# Altium footprint library CNT_TBLOCK_2.54MM_TE_282834-4.PcbLib: 1 footprints
Each footprint in its own frame and in the unit in brackets; x right, y up, seen from the top. Pads: shape width x height; smd on the part's side, far side on the other; paste and mask are expansions set on the pad; w line width, h text height; cw(c..) or ccw(c..) is an arc to the next point about the centre after c.
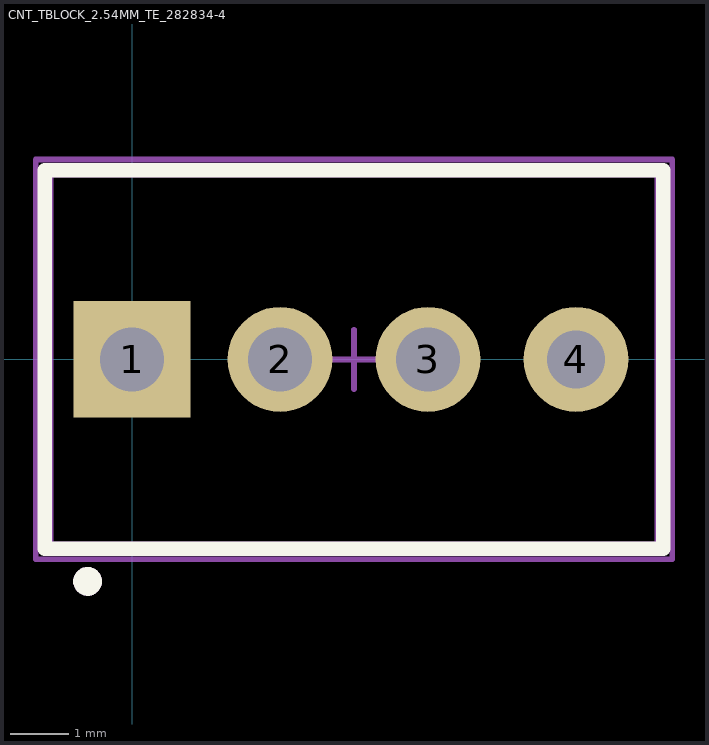
[diagram p0: the footprint, top view; thin cyan lines are the x and y axes]

## CNT_TBLOCK_2.54MM_TE_282834-4 [mm]
pads (4):
  rect 2x2 hole 1.1: 1(0,0)
  round 1.8 hole 1.1: 2(2.54,0) 3(5.08,0)
  round 1.8 hole 1: 4(7.62,0)
Top Overlay:
  circle w0.254: c-0.762,-3.81 r0.12
  lines w0.25: -1.5,-3.25 -1.5,3.25 9.12,3.25 9.12,-3.25 -1.5,-3.25
Mechanical 1:
  circle w0.254: c-0.762,-3.81 r0.12
  lines w0.1: -1.397,-3.175 9.017,-3.175 9.017,3.175 -1.397,3.175 -1.397,-3.175
  text ".Designator" at 3.81,0.155 h1.5
Mechanical 15:
  lines w0.1: 3.302,0 4.318,0 ; 3.81,-0.508 3.81,0.508 ; -1.651,-3.429 -1.651,3.429 9.271,3.429 9.271,-3.429 -1.651,-3.429
3D body "TE 282834-4.step": height 10, standoff -3.4, extent -1.5,-3.25 9.12,3.25